# Altium integrated library AMCC PowerPC 440.IntLib: 120 symbols (part 33 of 33)
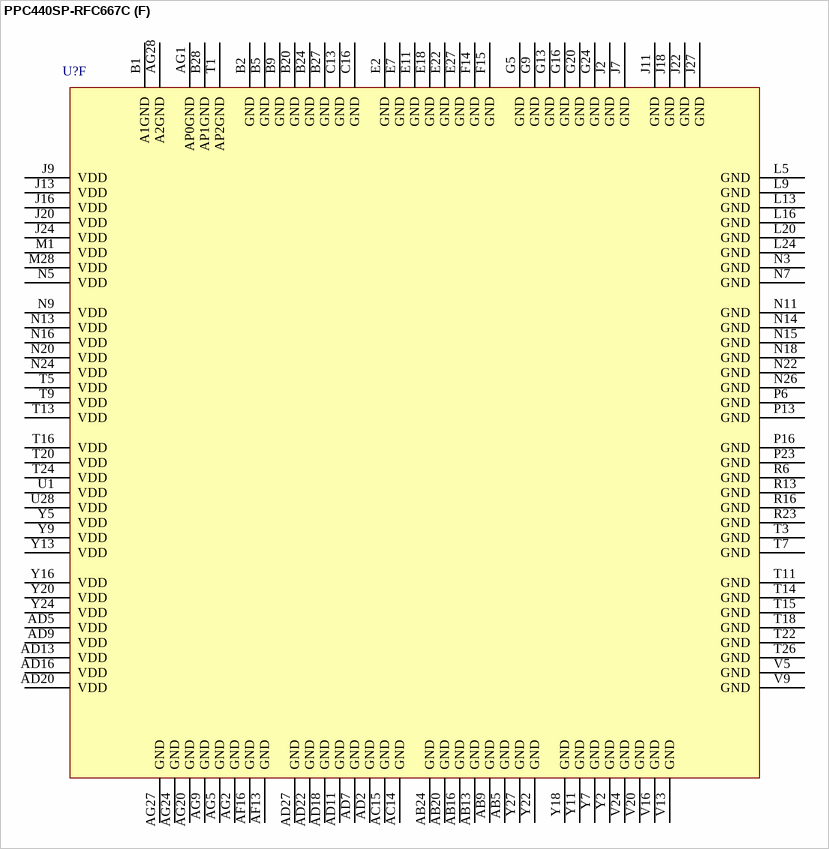
[diagram p431: symbol PPC440SP-RFC667C]

## PPC440SPe-3GA533C
designator U?
PowerPC 440SPe Embedded Processor, 533MHz, 27mm, 675 Ball FC-PBGA, rev A; Published: 30-Jun-2006; DatasheetVersion: rev1.19, May-2006; PackageVersion: rev1.19, May-2006; PackageReference: FC-PBGA675; Publisher: Altium Limited; PackageDescription: 675-Ball Flip Chip Plastic Ball Grid Array; ComponentLink1Description: Manufacturer Link; ComponentLink1URL: http://www.amcc.com/; ComponentLink2Description: Datasheet; ComponentLink2URL: https://www.amcc.com/MyAMCC/retrieveDocument/PowerPC/440SPe/PPC440SPe_DS2021_v1_19.pdf
footprint FC-PBGA675 (BGA, 675-Leads, Body 27x27mm, Pitch 1mm)
3D model PPC440SPe-FC-PBGA675 (675-Ball Flip Chip Plastic Ball Grid Array)
part A pins: A11 SysPartSel (in), A24 MemData59 (io), A25 MemData62 (io), AA17 TCK (in), AA18 MemClkOut4 (out), AA19 MemClkOut3 (out), AA20 ~{MemClkOut}0 (out), AA21 MemClkOut0 (out), AA22 ClkEn1 (out), AA23 ~{DQS}0 (io), AA24 DQS0 (io), AA25 MemData03 (io), AA26 MemData01 (io), AB15 TDI (in), AB17 MemAddr13 (out), AB18 ~{MemClkOut}4 (out), AB19 MemClkOut2 (out), AB20 ~{MemClkOut}3 (out), AB21 MemClkOut1 (out), AB22 ~{CAS} (out), AB23 MemData07 (io), AB24 MemAddr05 (out), AB25 MemData06 (io), AB26 MemAddr11 (out), AC15 TMS (in), AC18 MemClkOut5 (out), AC19 ~{MemClkOut}2 (out), AC21 ~{MemClkOut}1 (out), AC22 ~{WE} (out), AC24 MemData02 (io), AC25 MemData00 (io), AD16 TDO (out), AD17 ~{HISRRst} (in), AD18 ~{MemClkOut}5 (out), AD19 MemAddr10 (out), AD20 ~{BankSel}0 (out), AD21 BA1 (out), AD22 MemAddr02 (out), AD23 MemData05 (io), AD24 MemData04 (io), AD25 DM0 (out), AE17 ~{TRST} (in), AE18 MemAddr07 (out), AE19 MemAddr14 (out), AE20 MemAddr09 (out), AE21 BA2 (out), AE22 BA0 (out), AE23 ~{RAS} (out), AE24 MemDCFdbkD (out), AE25 ClkEn2 (out), AF18 MemAddr04 (out), AF19 MemAddr01 (out), AF21 MemAddr06 (out), AF22 MemAddr00 (out), AF24 MemDCFdbkR (in), AF25 ClkEn3 (out), B11 ~{ExtReset} (out), B22 MemData63 (io), B23 MemData61 (io), B24 MemData58 (io), B25 ~{DQS}7 (io), B26 MemData60 (io), C16 SYSClk (in), C23 DM7 (out), C24 MemData56 (io), C25 DQS7 (io), C26 MemData57 (io), D22 MemData54 (io), D24 MemData55 (io), D25 MemData53 (io), E12 TESTEN (in), E22 ~{DQS}6 (io), E23 MemData51 (io), E25 MemData52 (io), F22 DQS6 (io), F23 MemData49 (io), F24 DM6 (out), F25 MemData50 (io), F26 MemData48 (io), G22 DM5 (out), G24 MemData43 (io), G25 ~{DQS}5 (io), H22 MemData45 (io), H23 MemData42 (io), H24 MemData44 (io), H25 DQS5 (io), H26 MemData41 (io), J22 MemData47 (io), J23 MemData40 (io), J24 MemData46 (io), J25 MemData37 (io), J26 DM4 (out), K08 TMR_CLK (in), K24 MemData33 (io), L09 ~{SysReset} (in), L22 DQS4 (io), L23 MemData35 (io), L25 MemData36 (io), L26 MemData34 (io), M19 DM8 (out), M20 ECC2 (io), M21 MemData38 (io), M22 ~{DQS}4 (io), M24 MemData39 (io), M25 SYSErr (out), M26 MemData32 (io), N18 ECC7 (io), N19 ECC5 (io), N21 ECC6 (io), N22 ~{Halt} (in), N24 MemData31 (io), N25 MemData29 (io), P18 ECC3 (io), P19 ECC4 (io), P21 ~{DQS}8 (io), P24 ~{DQS}3 (io), P25 DQS3 (io), R19 ECC0 (io), R20 ECC1 (io), R21 DQS8 (io), R22 MemData27 (io), R23 MemAddr12 (out), R24 MemData25 (io), R25 MemAddr08 (out), R26 MemData30 (io), T18 MemData14 (io), T19 DQS1 (io), T20 MemData11 (io), T21 MemData09 (io), T22 MemData24 (io), T23 MemData26 (io), T24 MemAddr03 (out), T25 DM3 (out), T26 MemData28 (io), U19 MemData08 (io), U21 ~{DQS}1 (io), U24 MemData16 (io), V16 MemVRef1 (in), V19 MemData10 (io), V20 DM1 (out), V21 MemData12 (io), V22 MemData13 (io), V23 MemData18 (io), V24 MemData19 (io), V25 DM2 (out), V26 MemData21 (io), W17 ~{BankSel}3 (out), W18 MemVRef0 (in), W19 MemODT3 (out), W20 MemODT2 (out), W21 MemODT0 (out), W22 MemData15 (io), W23 ~{DQS}2 (io), W24 DQS2 (io), W25 MemData17 (io), W26 MemData23 (io), Y18 ~{BankSel}1 (out), Y19 ~{BankSel}2 (out), Y21 ClkEn0 (out), Y22 MemODT1 (out), Y24 MemData20 (io), Y25 MemData22 (io)
part B pins: A02 GPIO25_IRQ9[GPIO25][TRCIRQ9] (io), A03 PerPar1 (io), A05 EMCTxD3 (out), A06 PerAddr22 (out), A08 PerAddr17 (out), A12 UART1_Rx (in), A15 PerAddr8 (out), A16 ~{PerWE} (out), A22 PerAddr24 (out), AA13 THERMALDA (in), AA14 THERMALDB (out), AB10 SCANOUT14 "Test scan out. Manufacturing test signals. No need for termination.", AB13 SCANOUT19 "Test scan out. Manufacturing test signals. No need for termination.", AB14 SCANOUT20 "Test scan out. Manufacturing test signals. No need for termination.", AC12 SCANOUT17 "Test scan out. Manufacturing test signals. No need for termination.", AD11 SCANOUT16 "Test scan out. Manufacturing test signals. No need for termination.", AE10 SCANOUT15 "Test scan out. Manufacturing test signals. No need for termination.", AE12 SCANOUT18 "Test scan out. Manufacturing test signals. No need for termination.", AE15 SCANOUT21 "Test scan out. Manufacturing test signals. No need for termination.", B01 EMCRxClk (in), B02 EMCMDIO (io), B03 PerData13 (io), B04 ~{PerBE}1 (out), B05 PerData02 (io), B06 PerPar0 (io), B07 PerAddr18 (out), B08 ~{UART0_CTS} (in), B09 PerAddr15 (out), B10 EMCTxD7 (out), B12 UART1_Tx (out), B15 PerAddr2 (out), B16 PerAddr10 (out), B17 PerAddr26 (out), C01 EMCTxEn (out), C02 EMCTxClk (in), C03 EMCTxD0 (out), C04 PerData11 (io), C05 EMCTxD5 (out), C06 PerData04 (io), C07 ~{PerBE}0 (out), C08 PerAddr21 (out), C09 PerAddr16 (out), C10 PerAddr14 (out), C11 ~{PerCS}1 (out), C12 ~{UART0_DSR} (in), C13 ~{UART0_DTR} (out), C14 ~{UART0_RI} (in), C15 ~{PerCS}0 (out), C17 PerClk (out), C22 GPIO28_IRQ12[GPIO28][TRCIRQ12] (io), D02 EMCTxErr (out), D03 EMCCrS (in), D05 PerData10 (io), D06 PerData15 (io), D08 PerAddr23 (out), D09 UART0_Tx (out), D11 PerAddr13 (out), D12 UART0_Rx (in), D15 PerAddr3 (out), D16 ~{PerBLast} (out), E01 EMCTxD6 (out), E02 GPIO19_IRQ3[GPIO19][TRCIRQ3] (io), E03 EMCTxD4 (out), E04 GPIO20_IRQ4[GPIO20][TRCIRQ4] (io), E05 ~{PerOE} (out), E06 PerData09 (io), E07 PerData14 (io), E08 PerData06 (io), E09 PerAddr20 (out), E11 PerAddr19 (out), E13 PerAddr0 (out), E14 PerAddr1 (out), E15 PerAddr11 (out), E16 PerReady (in), E17 PerAddr25 (out), E24 GPIO27_IRQ11[GPIO27][TRCIRQ11] (io), E26 GPIO26_IRQ10[GPIO26][TRCIRQ10] (io), F01 GPIO02_TRCBS1[GPIO02][TRCBS1] (io), F02 GPIO07_TRCES3[GPIO07][TRCES3] (io), F03 EMCMDClk (out), F04 EMCRxErr (in), F05 EMCRxD7 (in), F06 GPIO23_IRQ7[GPIO23][TRCIRQ7] (io), F07 PerData07 (io), F08 PerData12 (io), F09 PerData08 (io), F10 ~{UART1_DSR/CTS} (in), F11 PerAddr12 (out), F12 UART2_Tx (out), F13 UART2_Rx (in), F14 PerAddr9 (out), F15 PerR/~{W} (out), F16 Reserved "Do not connect voltage, ground or any signals to this pin.", F17 Reserved "Do not connect voltage, ground or any signals to this pin.", G02 GPIO05_TRCES1[GPIO05][TRCES1] (io), G03 EMCRxD2 (in), G05 GPIO11_TRCTS2[GPIO11][TRCTS2] (io), G06 EMCTxD1 (out), G08 PerData00 (io), G09 ~{UART0_RTS} (out), G11 ~{UART1_DTR/RTS} (out), G12 ~{PerCS}2 (out), G15 PerErr (in), G16 Reserved "Do not connect voltage, ground or any signals to this pin.", G18 Reserved "Do not connect voltage, ground or any signals to this pin.", H01 GPIO01_TRCBS0[GPIO01][TRCBS0] (io), H02 EMCRxD3 (in), H03 EMCRxD4 (in), H04 GPIO09_TRCTS0[GPIO09][TRCTS0] (io), H05 EMCCD (in), H06 GPIO15_TRCTS6[GPIO15][TRCTS6] (io), H07 EMCRefClk (in), H08 GPIO24_IRQ8[GPIO24][TRCIRQ8] (io), H09 GPIO21_IRQ5[GPIO21][TRCIRQ5] (io), H10 PerData01 (io), H11 PerData03 (io), H12 UARTSerClk (in), H13 ~{UART0_DCD} (in), H14 PerAddr5 (out), H15 IIC1SDA (io), H16 PerAddr4 (out), H17 IIC0SClk (io), H18 IIC1SClk (io), J02 EMCRxD1 (in), J03 GPIO08_TRCES4[GPIO08][TRCES4] (io), J04 GPIO13_TRCTS4[GPIO13][TRCTS4] (io), J05 GPIO10_TRCTS1[GPIO10][TRCTS1] (io), J06 EMCRxDV (in), J07 EMCTxD2 (out), J08 EMCGTxClk (out), J11 PerData05 (io), J13 PerAddr7 (out), J14 PerAddr6 (out), J16 IIC0SDA (io), K03 GPIO04_TRCES0[GPIO04][TRCES0] (io), K06 GPIO14_TRCTS5[GPIO14][TRCTS5] (io), K22 GPIO31_IRQ15[GPIO31][TRCIRQ15] (io), K25 GPIO30_IRQ14[GPIO30][TRCIRQ14] (io), L01 GPIO00_TRCCLK[GPIO00][TRCCLK] (io), L02 GPIO03_TRCBS2[GPIO03][TRCBS2] (io), L04 EMCRxD5 (in), L05 GPIO12_TRCTS3[GPIO12][TRCTS3] (io), L06 EMCRxD0 (in), L07 GPIO22_IRQ6[GPIO22][TRCIRQ6] (io), L08 GPIO16_IRQ0[GPIO16][TRCIRQ0] (io), L24 GPIO29_IRQ13[GPIO29][TRCIRQ13] (io), M05 GPIO06_TRCES2[GPIO06][TRCES2] (io), M06 GPIO17_IRQ1[GPIO17][TRCIRQ1] (io), M07 EMCRxD6 (in), M08 GPIO18_IRQ2[GPIO18][TRCIRQ2] (io), M23 SCANOUT25 "Test scan out. Manufacturing test signals. No need for termination.", P22 SCANOUT08 "Test scan out. Manufacturing test signals. No need for termination.", U10 PSRO1, U22 SCANOUT07 "Test scan out. Manufacturing test signals. No need for termination.", U25 SCANOUT00 "Test scan out. Manufacturing test signals. No need for termination."
part C pins: A09 PCIX0M66En (in), A18 PCIE1_TX3 (out), A19 PCIE1_RX3 (in), A21 PCIE1_TX1 (out), AA01 PCIX0AD15 (io), AA02 PCIX0AD14 (io), AA03 PCIX0AD11 (io), AA04 PCIX0AD6 (io), AA05 PCIX0AD1 (io), AA06 ~{PCIX0BE}5 (io), AA07 PCIX0AD62 (io), AA08 PCIX0AD52 (io), AA09 PCIX0AD48 (io), AA10 PCIX0AD33 (io), AA11 ~{PCIE0_TX}0 (out), AA12 ~{PCIE0_TX}2 (out), AA15 ~{PCIE0_TX}6 (out), AA16 ~{PCIE0_TX}7 (out), AB01 ~{PCIX0IRDY} (io), AB02 PCIX0AD10 (io), AB03 ~{PCIX0TRDY} (io), AB04 PCIX0AD0 (io), AB05 ~{PCIX0BE}4 (io), AB06 ~{PCIX0BE}7 (io), AB07 PCIX0AD54 (io), AB08 PCIX0AD47 (io), AB09 PCIX0AD44 (io), AB11 PCIE0_RX1 (in), AB12 PCIE0_TX2 (out), AB16 PCIE0_TX5 (out), AC02 PCIX0AD5 (io), AC03 ~{PCIX0Req}64 (io), AC05 PCIX0AD58 (io), AC06 ~{PCIX0BE}6 (io), AC08 PCIX0AD43 (io), AC09 PCIX0AD40 (io), AC11 ~{PCIE0_RX}1 (in), AC16 ~{PCIE0_TX}5 (out), AD02 ~{PCIX0Ack64} (io), AD03 PCIX0Par64 (io), AD04 PCIX0AD57 (io), AD05 ~{PCIX0Stop} (io), AD06 PCIX0AD46 (io), AD07 PCIX0AD42 (io), AD08 PCIX0AD39 (io), AD09 PCIX0AD37 (io), AD10 PCIX0AD32 (io), AD12 PCIE0_RX3 (in), AD13 ~{PCIE0_RX}3 (in), AD14 ~{PCIE0_TX}4 (out), AD15 ~{PCIE0_RX}5 (in), AE02 PCIX0AD63 (io), AE03 PCIX0AD56 (io), AE04 PCIX0AD51 (io), AE05 PCIX0AD45 (io), AE06 PCIX0AD41 (io), AE07 PCIX0AD59 (io), AE08 PCIX0CalR0 (in), AE09 PCIX0CalG0 (in), AE11 ~{PCIE0_TX}1 (out), AE13 PCIE0_TX3 (out), AE14 PCIE0_TX4 (out), AE16 PCIE0_RX5 (in), AF02 PCIX0AD55 (io), AF03 PCIX0AD50 (io), AF05 ~{PCIX0Serr} (io), AF06 PCIX0AD38 (io), AF08 PCIX0AD36 (io), AF09 PCIX0AD35 (io), AF11 PCIE0_TX1 (out), AF12 ~{PCIE0_TX}3 (out), AF15 PCIE0_RX4 (in), AF16 ~{PCIE0_RX}4 (in), B18 ~{PCIE1_TX}3 (out), B19 ~{PCIE1_RX}3 (in), B20 ~{PCIE1_TX}1 (out), B21 PCIE1_RX1 (in), C18 PCIE1_TX2 (out), C19 PCIE1_RX2 (in), C20 ~{PCIE1_RX}1 (in), C21 PCIE1_TX0 (out), D18 ~{PCIE1_TX}2 (out), D19 ~{PCIE1_RX}2 (in), D21 ~{PCIE1_TX}0 (out), E10 ~{PCIX0Gnt}1 (out), E18 PCIE1AVREG (out), E20 PCIE1_RX0 (in), E21 ~{PCIE1_RX}0 (in), F18 PCIE2_RX3 (in), F19 ~{PCIE2_RX}3 (in), F20 PCIE2_RX2 (in), F21 ~{PCIE2_RX}2 (in), G19 PCIE2_TX3 (out), G21 PCIE2_TX2 (out), H19 ~{PCIE2_TX}3 (out), H20 ~{PCIE2_TX}1 (out), H21 ~{PCIE2_TX}2 (out), J01 PCIEPLLTSTON (in), J19 PCIE2_RX1 (in), J20 PCIE2_TX1 (out), J21 PCIE2_RX0 (in), K02 ~{PCIX0Req}1 (in), K05 ~{PCIX0Req}2 (in), K19 ~{PCIE2_RX}1 (in), K21 ~{PCIE2_RX}0 (in), L03 ~{PCIX0Reset} (out), L19 PCIE2AVREG (out), L20 ~{PCIE2_TX}0 (out), L21 PCIE2_TX0 (out), M01 PCIX0VC (out), M02 ~{PCIX0Req}3 (in), M03 PCIX0Cap (in), M04 ~{PCIX0Gnt}2 (out), N05 PCIX0Clk (in), N06 ~{PCIX0Frame} (io), N08 ~{PCIX0DevSel} (io), N09 ~{PCIX0PErr} (io), P05 PCIE_REFCLK (in), P06 ~{PCIE_REFCLK} (in), P08 PCIX0ECC5 (io), R01 PCIX0ECC4 (io), R02 ~{PCIX0Req}0 (io), R03 PCIX0ECC3 (io), R04 ~{PCIX0Gnt}3 (out), R05 PCIX0ECC2 (io), R06 PCIX0AD31 (io), R07 PCIX0AD30 (io), R08 PCIECalRP (in), T01 PCIX0AD29 (io), T02 PCIX0AD28 (io), T03 ~{PCIX0Gnt}0 (io), T04 PCIX0AD27 (io), T05 PCIX0AD26 (io), T06 PCIX0AD25 (io), T07 PCIX0AD24 (io), T08 PCIECalRN (in), T09 PCIX0VRef1 (in), U02 ~{PCIX0INTA} (out), U03 ~{PCIX0BE}3 (io), U05 PCIX0IDSel (io), U06 PCIX0AD23 (io), U08 PCIX0AD61 (io), V01 PCIX0AD22 (io), V02 PCIX0AD21 (io), V03 PCIX0AD20 (io), V04 PCIX0AD19 (io), V05 PCIX0AD18 (io), V06 PCIX0AD13 (io), V07 PCIX0AD9 (io), V08 PCIX0AD3 (io), V11 PCIE0_RX0 (in), V14 PCIE0_RX6 (in), W01 PCIX0Par (io), W02 ~{PCIX0BE}2 (io), W03 PCIX0AD16 (io), W04 PCIX0AD17 (io), W05 PCIX0AD12 (io), W06 PCIX0AD8 (io), W07 PCIX0AD4 (io), W08 PCIX0AD53 (io), W09 PCIX0AD60 (io), W10 PCIX0AD34 (io), W11 ~{PCIE0_RX}0 (in), W12 PCIE0_RX2 (in), W13 PCIE0AVREG (out), W14 ~{PCIE0_RX}6 (in), W15 PCIE0_RX7 (in), W16 ~{PCIE0_RX}7 (in), Y02 ~{PCIX0BE}1 (io), Y03 ~{PCIX0BE}0 (io), Y05 PCIX0AD7 (io), Y06 PCIX0AD2 (io), Y08 PCIX0VRef0 (in), Y09 PCIX0AD49 (io), Y11 PCIE0_TX0 (out), Y12 ~{PCIE0_RX}2 (in), Y15 PCIE0_TX6 (out), Y16 PCIE0_TX7 (out)
part D pins: A07 OVDD (power), A13 OVDD (power), A14 OVDD (power), A20 OVDD (power), A26 OVDD (power), AC04 VDD (power), AC10 VDD (power), AC17 VDD (power), AC23 VDD (power), AD01 PCIX0PLLV (power), AE26 SYS2PLLV (power), AF01 PxVDD (power), AF07 PxVDD (power), AF13 PxVDD (power), AF14 SVDD (power), AF20 SVDD (power), AF26 SVDD (power), B13 SYSPLLV (power), D04 VDD (power), D10 VDD (power), D17 VDD (power), D23 VDD (power), E19 PCIE1AV25 (power), G01 OVDD (power), G07 OVDD (power), G13 OVDD (power), G14 OVDD (power), G20 OVDD (power), G26 OVDD (power), J10 VDD (power), J17 VDD (power), K04 VDD (power), K09 VDD (power), K11 OVDD (power), K13 OVDD (power), K14 OVDD (power), K16 OVDD (power), K18 VDD (power), K23 VDD (power), L10 OVDD (power), L12 VDD (power), L15 VDD (power), L17 OVDD (power), L18 PCIE2AV25 (power), M11 VDD (power), M13 OVDD (power), M14 OVDD (power), M16 VDD (power), N01 OVDD (power), N03 PCIE_PLLVDDB (power), N07 OVDD (power), N10 OVDD (power), N12 OVDD (power), N15 OVDD (power), N17 OVDD (power), N20 OVDD (power), N26 OVDD (power), P01 PxVDD (power), P03 PCIE_PLLVDDA (power), P07 PxVDD (power), P09 PCIE_PLLVDD2 (power), P10 PxVDD (power), P12 PxVDD (power), P15 SVDD (power), P17 SVDD (power), P20 SVDD (power), P26 SVDD (power), R11 VDD (power), R13 PxVDD (power), R14 SVDD (power), R16 VDD (power), T10 PxVDD (power), T12 VDD (power), T15 VDD (power), T17 SVDD (power), U04 VDD (power), U09 VDD (power), U11 PxVDD (power), U13 PxVDD (power), U14 SVDD (power), U16 SVDD (power), U18 VDD (power), U23 VDD (power), V10 VDD (power), V13 PCIE0AV25 (power), V17 VDD (power), Y01 PxVDD (power), Y07 PxVDD (power), Y13 PxVDD (power), Y14 SVDD (power), Y20 SVDD (power), Y26 SVDD (power)
part E pins: A04 GND (power), A10 GND (power), A17 GND (power), A23 GND (power), AC01 GND (power), AC07 GND (power), AC13 GND (power), AC14 GND (power), AC20 GND (power), AC26 GND (power), AD26 SYS2PLLG (power), AE01 PCIX0PLLG (power), AF04 GND (power), AF10 GND (power), AF17 GND (power), AF23 GND (power), B14 SYSPLLG (power), D01 GND (power), D07 GND (power), D13 GND (power), D14 GND (power), D20 GND (power), D26 GND (power), G04 GND (power), G10 GND (power), G17 GND (power), G23 GND (power), J09 GND (power), J12 GND (power), J15 GND (power), J18 GND (power), K01 GND (power), K07 GND (power), K10 GND (power), K12 GND (power), K15 GND (power), K17 GND (power), K20 GND (power), K26 GND (power), L11 GND (power), L13 GND (power), L14 GND (power), L16 GND (power), M09 GND (power), M10 GND (power), M12 GND (power), M15 GND (power), M17 GND (power), M18 GND (power), N02 PCIE_PLLGNDB (power), N04 GND (power), N11 GND (power), N13 GND (power), N14 GND (power), N16 GND (power), N23 GND (power), P02 PCIE_PLLGNDA (power), P04 GND (power), P11 GND (power), P13 GND (power), P14 GND (power), P16 GND (power), P23 GND (power), R09 GND (power), R10 GND (power), R12 GND (power), R15 GND (power), R17 GND (power), R18 GND (power), T11 GND (power), T13 GND (power), T14 GND (power), T16 GND (power), U01 GND (power), U07 GND (power), U12 GND (power), U15 GND (power), U17 GND (power), U20 GND (power), U26 GND (power), V09 GND (power), V12 GND (power), V15 GND (power), V18 GND (power), Y04 GND (power), Y10 GND (power), Y17 GND (power), Y23 GND (power)

## PPC440SPe-3GA667C
designator U?
PowerPC 440SPe Embedded Processor, 667MHz, 27mm, 675 Ball FC-PBGA, rev A; Published: 30-Jun-2006; DatasheetVersion: rev1.19, May-2006; PackageVersion: rev1.19, May-2006; PackageReference: FC-PBGA675; Publisher: Altium Limited; PackageDescription: 675-Ball Flip Chip Plastic Ball Grid Array; ComponentLink1Description: Manufacturer Link; ComponentLink1URL: http://www.amcc.com/; ComponentLink2Description: Datasheet; ComponentLink2URL: https://www.amcc.com/MyAMCC/retrieveDocument/PowerPC/440SPe/PPC440SPe_DS2021_v1_19.pdf
footprint FC-PBGA675 (BGA, 675-Leads, Body 27x27mm, Pitch 1mm)
3D model PPC440SPe-FC-PBGA675 (675-Ball Flip Chip Plastic Ball Grid Array)
part A pins: A11 SysPartSel (in), A24 MemData59 (io), A25 MemData62 (io), AA17 TCK (in), AA18 MemClkOut4 (out), AA19 MemClkOut3 (out), AA20 ~{MemClkOut}0 (out), AA21 MemClkOut0 (out), AA22 ClkEn1 (out), AA23 ~{DQS}0 (io), AA24 DQS0 (io), AA25 MemData03 (io), AA26 MemData01 (io), AB15 TDI (in), AB17 MemAddr13 (out), AB18 ~{MemClkOut}4 (out), AB19 MemClkOut2 (out), AB20 ~{MemClkOut}3 (out), AB21 MemClkOut1 (out), AB22 ~{CAS} (out), AB23 MemData07 (io), AB24 MemAddr05 (out), AB25 MemData06 (io), AB26 MemAddr11 (out), AC15 TMS (in), AC18 MemClkOut5 (out), AC19 ~{MemClkOut}2 (out), AC21 ~{MemClkOut}1 (out), AC22 ~{WE} (out), AC24 MemData02 (io), AC25 MemData00 (io), AD16 TDO (out), AD17 ~{HISRRst} (in), AD18 ~{MemClkOut}5 (out), AD19 MemAddr10 (out), AD20 ~{BankSel}0 (out), AD21 BA1 (out), AD22 MemAddr02 (out), AD23 MemData05 (io), AD24 MemData04 (io), AD25 DM0 (out), AE17 ~{TRST} (in), AE18 MemAddr07 (out), AE19 MemAddr14 (out), AE20 MemAddr09 (out), AE21 BA2 (out), AE22 BA0 (out), AE23 ~{RAS} (out), AE24 MemDCFdbkD (out), AE25 ClkEn2 (out), AF18 MemAddr04 (out), AF19 MemAddr01 (out), AF21 MemAddr06 (out), AF22 MemAddr00 (out), AF24 MemDCFdbkR (in), AF25 ClkEn3 (out), B11 ~{ExtReset} (out), B22 MemData63 (io), B23 MemData61 (io), B24 MemData58 (io), B25 ~{DQS}7 (io), B26 MemData60 (io), C16 SYSClk (in), C23 DM7 (out), C24 MemData56 (io), C25 DQS7 (io), C26 MemData57 (io), D22 MemData54 (io), D24 MemData55 (io), D25 MemData53 (io), E12 TESTEN (in), E22 ~{DQS}6 (io), E23 MemData51 (io), E25 MemData52 (io), F22 DQS6 (io), F23 MemData49 (io), F24 DM6 (out), F25 MemData50 (io), F26 MemData48 (io), G22 DM5 (out), G24 MemData43 (io), G25 ~{DQS}5 (io), H22 MemData45 (io), H23 MemData42 (io), H24 MemData44 (io), H25 DQS5 (io), H26 MemData41 (io), J22 MemData47 (io), J23 MemData40 (io), J24 MemData46 (io), J25 MemData37 (io), J26 DM4 (out), K08 TMR_CLK (in), K24 MemData33 (io), L09 ~{SysReset} (in), L22 DQS4 (io), L23 MemData35 (io), L25 MemData36 (io), L26 MemData34 (io), M19 DM8 (out), M20 ECC2 (io), M21 MemData38 (io), M22 ~{DQS}4 (io), M24 MemData39 (io), M25 SYSErr (out), M26 MemData32 (io), N18 ECC7 (io), N19 ECC5 (io), N21 ECC6 (io), N22 ~{Halt} (in), N24 MemData31 (io), N25 MemData29 (io), P18 ECC3 (io), P19 ECC4 (io), P21 ~{DQS}8 (io), P24 ~{DQS}3 (io), P25 DQS3 (io), R19 ECC0 (io), R20 ECC1 (io), R21 DQS8 (io), R22 MemData27 (io), R23 MemAddr12 (out), R24 MemData25 (io), R25 MemAddr08 (out), R26 MemData30 (io), T18 MemData14 (io), T19 DQS1 (io), T20 MemData11 (io), T21 MemData09 (io), T22 MemData24 (io), T23 MemData26 (io), T24 MemAddr03 (out), T25 DM3 (out), T26 MemData28 (io), U19 MemData08 (io), U21 ~{DQS}1 (io), U24 MemData16 (io), V16 MemVRef1 (in), V19 MemData10 (io), V20 DM1 (out), V21 MemData12 (io), V22 MemData13 (io), V23 MemData18 (io), V24 MemData19 (io), V25 DM2 (out), V26 MemData21 (io), W17 ~{BankSel}3 (out), W18 MemVRef0 (in), W19 MemODT3 (out), W20 MemODT2 (out), W21 MemODT0 (out), W22 MemData15 (io), W23 ~{DQS}2 (io), W24 DQS2 (io), W25 MemData17 (io), W26 MemData23 (io), Y18 ~{BankSel}1 (out), Y19 ~{BankSel}2 (out), Y21 ClkEn0 (out), Y22 MemODT1 (out), Y24 MemData20 (io), Y25 MemData22 (io)
part B pins: A02 GPIO25_IRQ9[GPIO25][TRCIRQ9] (io), A03 PerPar1 (io), A05 EMCTxD3 (out), A06 PerAddr22 (out), A08 PerAddr17 (out), A12 UART1_Rx (in), A15 PerAddr8 (out), A16 ~{PerWE} (out), A22 PerAddr24 (out), AA13 THERMALDA (in), AA14 THERMALDB (out), AB10 SCANOUT14 "Test scan out. Manufacturing test signals. No need for termination.", AB13 SCANOUT19 "Test scan out. Manufacturing test signals. No need for termination.", AB14 SCANOUT20 "Test scan out. Manufacturing test signals. No need for termination.", AC12 SCANOUT17 "Test scan out. Manufacturing test signals. No need for termination.", AD11 SCANOUT16 "Test scan out. Manufacturing test signals. No need for termination.", AE10 SCANOUT15 "Test scan out. Manufacturing test signals. No need for termination.", AE12 SCANOUT18 "Test scan out. Manufacturing test signals. No need for termination.", AE15 SCANOUT21 "Test scan out. Manufacturing test signals. No need for termination.", B01 EMCRxClk (in), B02 EMCMDIO (io), B03 PerData13 (io), B04 ~{PerBE}1 (out), B05 PerData02 (io), B06 PerPar0 (io), B07 PerAddr18 (out), B08 ~{UART0_CTS} (in), B09 PerAddr15 (out), B10 EMCTxD7 (out), B12 UART1_Tx (out), B15 PerAddr2 (out), B16 PerAddr10 (out), B17 PerAddr26 (out), C01 EMCTxEn (out), C02 EMCTxClk (in), C03 EMCTxD0 (out), C04 PerData11 (io), C05 EMCTxD5 (out), C06 PerData04 (io), C07 ~{PerBE}0 (out), C08 PerAddr21 (out), C09 PerAddr16 (out), C10 PerAddr14 (out), C11 ~{PerCS}1 (out), C12 ~{UART0_DSR} (in), C13 ~{UART0_DTR} (out), C14 ~{UART0_RI} (in), C15 ~{PerCS}0 (out), C17 PerClk (out), C22 GPIO28_IRQ12[GPIO28][TRCIRQ12] (io), D02 EMCTxErr (out), D03 EMCCrS (in), D05 PerData10 (io), D06 PerData15 (io), D08 PerAddr23 (out), D09 UART0_Tx (out), D11 PerAddr13 (out), D12 UART0_Rx (in), D15 PerAddr3 (out), D16 ~{PerBLast} (out), E01 EMCTxD6 (out), E02 GPIO19_IRQ3[GPIO19][TRCIRQ3] (io), E03 EMCTxD4 (out), E04 GPIO20_IRQ4[GPIO20][TRCIRQ4] (io), E05 ~{PerOE} (out), E06 PerData09 (io), E07 PerData14 (io), E08 PerData06 (io), E09 PerAddr20 (out), E11 PerAddr19 (out), E13 PerAddr0 (out), E14 PerAddr1 (out), E15 PerAddr11 (out), E16 PerReady (in), E17 PerAddr25 (out), E24 GPIO27_IRQ11[GPIO27][TRCIRQ11] (io), E26 GPIO26_IRQ10[GPIO26][TRCIRQ10] (io), F01 GPIO02_TRCBS1[GPIO02][TRCBS1] (io), F02 GPIO07_TRCES3[GPIO07][TRCES3] (io), F03 EMCMDClk (out), F04 EMCRxErr (in), F05 EMCRxD7 (in), F06 GPIO23_IRQ7[GPIO23][TRCIRQ7] (io), F07 PerData07 (io), F08 PerData12 (io), F09 PerData08 (io), F10 ~{UART1_DSR/CTS} (in), F11 PerAddr12 (out), F12 UART2_Tx (out), F13 UART2_Rx (in), F14 PerAddr9 (out), F15 PerR/~{W} (out), F16 Reserved "Do not connect voltage, ground or any signals to this pin.", F17 Reserved "Do not connect voltage, ground or any signals to this pin.", G02 GPIO05_TRCES1[GPIO05][TRCES1] (io), G03 EMCRxD2 (in), G05 GPIO11_TRCTS2[GPIO11][TRCTS2] (io), G06 EMCTxD1 (out), G08 PerData00 (io), G09 ~{UART0_RTS} (out), G11 ~{UART1_DTR/RTS} (out), G12 ~{PerCS}2 (out), G15 PerErr (in), G16 Reserved "Do not connect voltage, ground or any signals to this pin.", G18 Reserved "Do not connect voltage, ground or any signals to this pin.", H01 GPIO01_TRCBS0[GPIO01][TRCBS0] (io), H02 EMCRxD3 (in), H03 EMCRxD4 (in), H04 GPIO09_TRCTS0[GPIO09][TRCTS0] (io), H05 EMCCD (in), H06 GPIO15_TRCTS6[GPIO15][TRCTS6] (io), H07 EMCRefClk (in), H08 GPIO24_IRQ8[GPIO24][TRCIRQ8] (io), H09 GPIO21_IRQ5[GPIO21][TRCIRQ5] (io), H10 PerData01 (io), H11 PerData03 (io), H12 UARTSerClk (in), H13 ~{UART0_DCD} (in), H14 PerAddr5 (out), H15 IIC1SDA (io), H16 PerAddr4 (out), H17 IIC0SClk (io), H18 IIC1SClk (io), J02 EMCRxD1 (in), J03 GPIO08_TRCES4[GPIO08][TRCES4] (io), J04 GPIO13_TRCTS4[GPIO13][TRCTS4] (io), J05 GPIO10_TRCTS1[GPIO10][TRCTS1] (io), J06 EMCRxDV (in), J07 EMCTxD2 (out), J08 EMCGTxClk (out), J11 PerData05 (io), J13 PerAddr7 (out), J14 PerAddr6 (out), J16 IIC0SDA (io), K03 GPIO04_TRCES0[GPIO04][TRCES0] (io), K06 GPIO14_TRCTS5[GPIO14][TRCTS5] (io), K22 GPIO31_IRQ15[GPIO31][TRCIRQ15] (io), K25 GPIO30_IRQ14[GPIO30][TRCIRQ14] (io), L01 GPIO00_TRCCLK[GPIO00][TRCCLK] (io), L02 GPIO03_TRCBS2[GPIO03][TRCBS2] (io), L04 EMCRxD5 (in), L05 GPIO12_TRCTS3[GPIO12][TRCTS3] (io), L06 EMCRxD0 (in), L07 GPIO22_IRQ6[GPIO22][TRCIRQ6] (io), L08 GPIO16_IRQ0[GPIO16][TRCIRQ0] (io), L24 GPIO29_IRQ13[GPIO29][TRCIRQ13] (io), M05 GPIO06_TRCES2[GPIO06][TRCES2] (io), M06 GPIO17_IRQ1[GPIO17][TRCIRQ1] (io), M07 EMCRxD6 (in), M08 GPIO18_IRQ2[GPIO18][TRCIRQ2] (io), M23 SCANOUT25 "Test scan out. Manufacturing test signals. No need for termination.", P22 SCANOUT08 "Test scan out. Manufacturing test signals. No need for termination.", U10 PSRO1, U22 SCANOUT07 "Test scan out. Manufacturing test signals. No need for termination.", U25 SCANOUT00 "Test scan out. Manufacturing test signals. No need for termination."
part C pins: A09 PCIX0M66En (in), A18 PCIE1_TX3 (out), A19 PCIE1_RX3 (in), A21 PCIE1_TX1 (out), AA01 PCIX0AD15 (io), AA02 PCIX0AD14 (io), AA03 PCIX0AD11 (io), AA04 PCIX0AD6 (io), AA05 PCIX0AD1 (io), AA06 ~{PCIX0BE}5 (io), AA07 PCIX0AD62 (io), AA08 PCIX0AD52 (io), AA09 PCIX0AD48 (io), AA10 PCIX0AD33 (io), AA11 ~{PCIE0_TX}0 (out), AA12 ~{PCIE0_TX}2 (out), AA15 ~{PCIE0_TX}6 (out), AA16 ~{PCIE0_TX}7 (out), AB01 ~{PCIX0IRDY} (io), AB02 PCIX0AD10 (io), AB03 ~{PCIX0TRDY} (io), AB04 PCIX0AD0 (io), AB05 ~{PCIX0BE}4 (io), AB06 ~{PCIX0BE}7 (io), AB07 PCIX0AD54 (io), AB08 PCIX0AD47 (io), AB09 PCIX0AD44 (io), AB11 PCIE0_RX1 (in), AB12 PCIE0_TX2 (out), AB16 PCIE0_TX5 (out), AC02 PCIX0AD5 (io), AC03 ~{PCIX0Req}64 (io), AC05 PCIX0AD58 (io), AC06 ~{PCIX0BE}6 (io), AC08 PCIX0AD43 (io), AC09 PCIX0AD40 (io), AC11 ~{PCIE0_RX}1 (in), AC16 ~{PCIE0_TX}5 (out), AD02 ~{PCIX0Ack64} (io), AD03 PCIX0Par64 (io), AD04 PCIX0AD57 (io), AD05 ~{PCIX0Stop} (io), AD06 PCIX0AD46 (io), AD07 PCIX0AD42 (io), AD08 PCIX0AD39 (io), AD09 PCIX0AD37 (io), AD10 PCIX0AD32 (io), AD12 PCIE0_RX3 (in), AD13 ~{PCIE0_RX}3 (in), AD14 ~{PCIE0_TX}4 (out), AD15 ~{PCIE0_RX}5 (in), AE02 PCIX0AD63 (io), AE03 PCIX0AD56 (io), AE04 PCIX0AD51 (io), AE05 PCIX0AD45 (io), AE06 PCIX0AD41 (io), AE07 PCIX0AD59 (io), AE08 PCIX0CalR0 (in), AE09 PCIX0CalG0 (in), AE11 ~{PCIE0_TX}1 (out), AE13 PCIE0_TX3 (out), AE14 PCIE0_TX4 (out), AE16 PCIE0_RX5 (in), AF02 PCIX0AD55 (io), AF03 PCIX0AD50 (io), AF05 ~{PCIX0Serr} (io), AF06 PCIX0AD38 (io), AF08 PCIX0AD36 (io), AF09 PCIX0AD35 (io), AF11 PCIE0_TX1 (out), AF12 ~{PCIE0_TX}3 (out), AF15 PCIE0_RX4 (in), AF16 ~{PCIE0_RX}4 (in), B18 ~{PCIE1_TX}3 (out), B19 ~{PCIE1_RX}3 (in), B20 ~{PCIE1_TX}1 (out), B21 PCIE1_RX1 (in), C18 PCIE1_TX2 (out), C19 PCIE1_RX2 (in), C20 ~{PCIE1_RX}1 (in), C21 PCIE1_TX0 (out), D18 ~{PCIE1_TX}2 (out), D19 ~{PCIE1_RX}2 (in), D21 ~{PCIE1_TX}0 (out), E10 ~{PCIX0Gnt}1 (out), E18 PCIE1AVREG (out), E20 PCIE1_RX0 (in), E21 ~{PCIE1_RX}0 (in), F18 PCIE2_RX3 (in), F19 ~{PCIE2_RX}3 (in), F20 PCIE2_RX2 (in), F21 ~{PCIE2_RX}2 (in), G19 PCIE2_TX3 (out), G21 PCIE2_TX2 (out), H19 ~{PCIE2_TX}3 (out), H20 ~{PCIE2_TX}1 (out), H21 ~{PCIE2_TX}2 (out), J01 PCIEPLLTSTON (in), J19 PCIE2_RX1 (in), J20 PCIE2_TX1 (out), J21 PCIE2_RX0 (in), K02 ~{PCIX0Req}1 (in), K05 ~{PCIX0Req}2 (in), K19 ~{PCIE2_RX}1 (in), K21 ~{PCIE2_RX}0 (in), L03 ~{PCIX0Reset} (out), L19 PCIE2AVREG (out), L20 ~{PCIE2_TX}0 (out), L21 PCIE2_TX0 (out), M01 PCIX0VC (out), M02 ~{PCIX0Req}3 (in), M03 PCIX0Cap (in), M04 ~{PCIX0Gnt}2 (out), N05 PCIX0Clk (in), N06 ~{PCIX0Frame} (io), N08 ~{PCIX0DevSel} (io), N09 ~{PCIX0PErr} (io), P05 PCIE_REFCLK (in), P06 ~{PCIE_REFCLK} (in), P08 PCIX0ECC5 (io), R01 PCIX0ECC4 (io), R02 ~{PCIX0Req}0 (io), R03 PCIX0ECC3 (io), R04 ~{PCIX0Gnt}3 (out), R05 PCIX0ECC2 (io), R06 PCIX0AD31 (io), R07 PCIX0AD30 (io), R08 PCIECalRP (in), T01 PCIX0AD29 (io), T02 PCIX0AD28 (io), T03 ~{PCIX0Gnt}0 (io), T04 PCIX0AD27 (io), T05 PCIX0AD26 (io), T06 PCIX0AD25 (io), T07 PCIX0AD24 (io), T08 PCIECalRN (in), T09 PCIX0VRef1 (in), U02 ~{PCIX0INTA} (out), U03 ~{PCIX0BE}3 (io), U05 PCIX0IDSel (io), U06 PCIX0AD23 (io), U08 PCIX0AD61 (io), V01 PCIX0AD22 (io), V02 PCIX0AD21 (io), V03 PCIX0AD20 (io), V04 PCIX0AD19 (io), V05 PCIX0AD18 (io), V06 PCIX0AD13 (io), V07 PCIX0AD9 (io), V08 PCIX0AD3 (io), V11 PCIE0_RX0 (in), V14 PCIE0_RX6 (in), W01 PCIX0Par (io), W02 ~{PCIX0BE}2 (io), W03 PCIX0AD16 (io), W04 PCIX0AD17 (io), W05 PCIX0AD12 (io), W06 PCIX0AD8 (io), W07 PCIX0AD4 (io), W08 PCIX0AD53 (io), W09 PCIX0AD60 (io), W10 PCIX0AD34 (io), W11 ~{PCIE0_RX}0 (in), W12 PCIE0_RX2 (in), W13 PCIE0AVREG (out), W14 ~{PCIE0_RX}6 (in), W15 PCIE0_RX7 (in), W16 ~{PCIE0_RX}7 (in), Y02 ~{PCIX0BE}1 (io), Y03 ~{PCIX0BE}0 (io), Y05 PCIX0AD7 (io), Y06 PCIX0AD2 (io), Y08 PCIX0VRef0 (in), Y09 PCIX0AD49 (io), Y11 PCIE0_TX0 (out), Y12 ~{PCIE0_RX}2 (in), Y15 PCIE0_TX6 (out), Y16 PCIE0_TX7 (out)
part D pins: A07 OVDD (power), A13 OVDD (power), A14 OVDD (power), A20 OVDD (power), A26 OVDD (power), AC04 VDD (power), AC10 VDD (power), AC17 VDD (power), AC23 VDD (power), AD01 PCIX0PLLV (power), AE26 SYS2PLLV (power), AF01 PxVDD (power), AF07 PxVDD (power), AF13 PxVDD (power), AF14 SVDD (power), AF20 SVDD (power), AF26 SVDD (power), B13 SYSPLLV (power), D04 VDD (power), D10 VDD (power), D17 VDD (power), D23 VDD (power), E19 PCIE1AV25 (power), G01 OVDD (power), G07 OVDD (power), G13 OVDD (power), G14 OVDD (power), G20 OVDD (power), G26 OVDD (power), J10 VDD (power), J17 VDD (power), K04 VDD (power), K09 VDD (power), K11 OVDD (power), K13 OVDD (power), K14 OVDD (power), K16 OVDD (power), K18 VDD (power), K23 VDD (power), L10 OVDD (power), L12 VDD (power), L15 VDD (power), L17 OVDD (power), L18 PCIE2AV25 (power), M11 VDD (power), M13 OVDD (power), M14 OVDD (power), M16 VDD (power), N01 OVDD (power), N03 PCIE_PLLVDDB (power), N07 OVDD (power), N10 OVDD (power), N12 OVDD (power), N15 OVDD (power), N17 OVDD (power), N20 OVDD (power), N26 OVDD (power), P01 PxVDD (power), P03 PCIE_PLLVDDA (power), P07 PxVDD (power), P09 PCIE_PLLVDD2 (power), P10 PxVDD (power), P12 PxVDD (power), P15 SVDD (power), P17 SVDD (power), P20 SVDD (power), P26 SVDD (power), R11 VDD (power), R13 PxVDD (power), R14 SVDD (power), R16 VDD (power), T10 PxVDD (power), T12 VDD (power), T15 VDD (power), T17 SVDD (power), U04 VDD (power), U09 VDD (power), U11 PxVDD (power), U13 PxVDD (power), U14 SVDD (power), U16 SVDD (power), U18 VDD (power), U23 VDD (power), V10 VDD (power), V13 PCIE0AV25 (power), V17 VDD (power), Y01 PxVDD (power), Y07 PxVDD (power), Y13 PxVDD (power), Y14 SVDD (power), Y20 SVDD (power), Y26 SVDD (power)
part E pins: A04 GND (power), A10 GND (power), A17 GND (power), A23 GND (power), AC01 GND (power), AC07 GND (power), AC13 GND (power), AC14 GND (power), AC20 GND (power), AC26 GND (power), AD26 SYS2PLLG (power), AE01 PCIX0PLLG (power), AF04 GND (power), AF10 GND (power), AF17 GND (power), AF23 GND (power), B14 SYSPLLG (power), D01 GND (power), D07 GND (power), D13 GND (power), D14 GND (power), D20 GND (power), D26 GND (power), G04 GND (power), G10 GND (power), G17 GND (power), G23 GND (power), J09 GND (power), J12 GND (power), J15 GND (power), J18 GND (power), K01 GND (power), K07 GND (power), K10 GND (power), K12 GND (power), K15 GND (power), K17 GND (power), K20 GND (power), K26 GND (power), L11 GND (power), L13 GND (power), L14 GND (power), L16 GND (power), M09 GND (power), M10 GND (power), M12 GND (power), M15 GND (power), M17 GND (power), M18 GND (power), N02 PCIE_PLLGNDB (power), N04 GND (power), N11 GND (power), N13 GND (power), N14 GND (power), N16 GND (power), N23 GND (power), P02 PCIE_PLLGNDA (power), P04 GND (power), P11 GND (power), P13 GND (power), P14 GND (power), P16 GND (power), P23 GND (power), R09 GND (power), R10 GND (power), R12 GND (power), R15 GND (power), R17 GND (power), R18 GND (power), T11 GND (power), T13 GND (power), T14 GND (power), T16 GND (power), U01 GND (power), U07 GND (power), U12 GND (power), U15 GND (power), U17 GND (power), U20 GND (power), U26 GND (power), V09 GND (power), V12 GND (power), V15 GND (power), V18 GND (power), Y04 GND (power), Y10 GND (power), Y17 GND (power), Y23 GND (power)